# Altium footprint library MISC.PcbLib: 13 footprints
Each footprint in its own frame and in the unit in brackets; x right, y up, seen from the top. Pads: shape width x height; smd on the part's side, far side on the other; paste and mask are expansions set on the pad; w line width, h text height; cw(c..) or ccw(c..) is an arc to the next point about the centre after c.
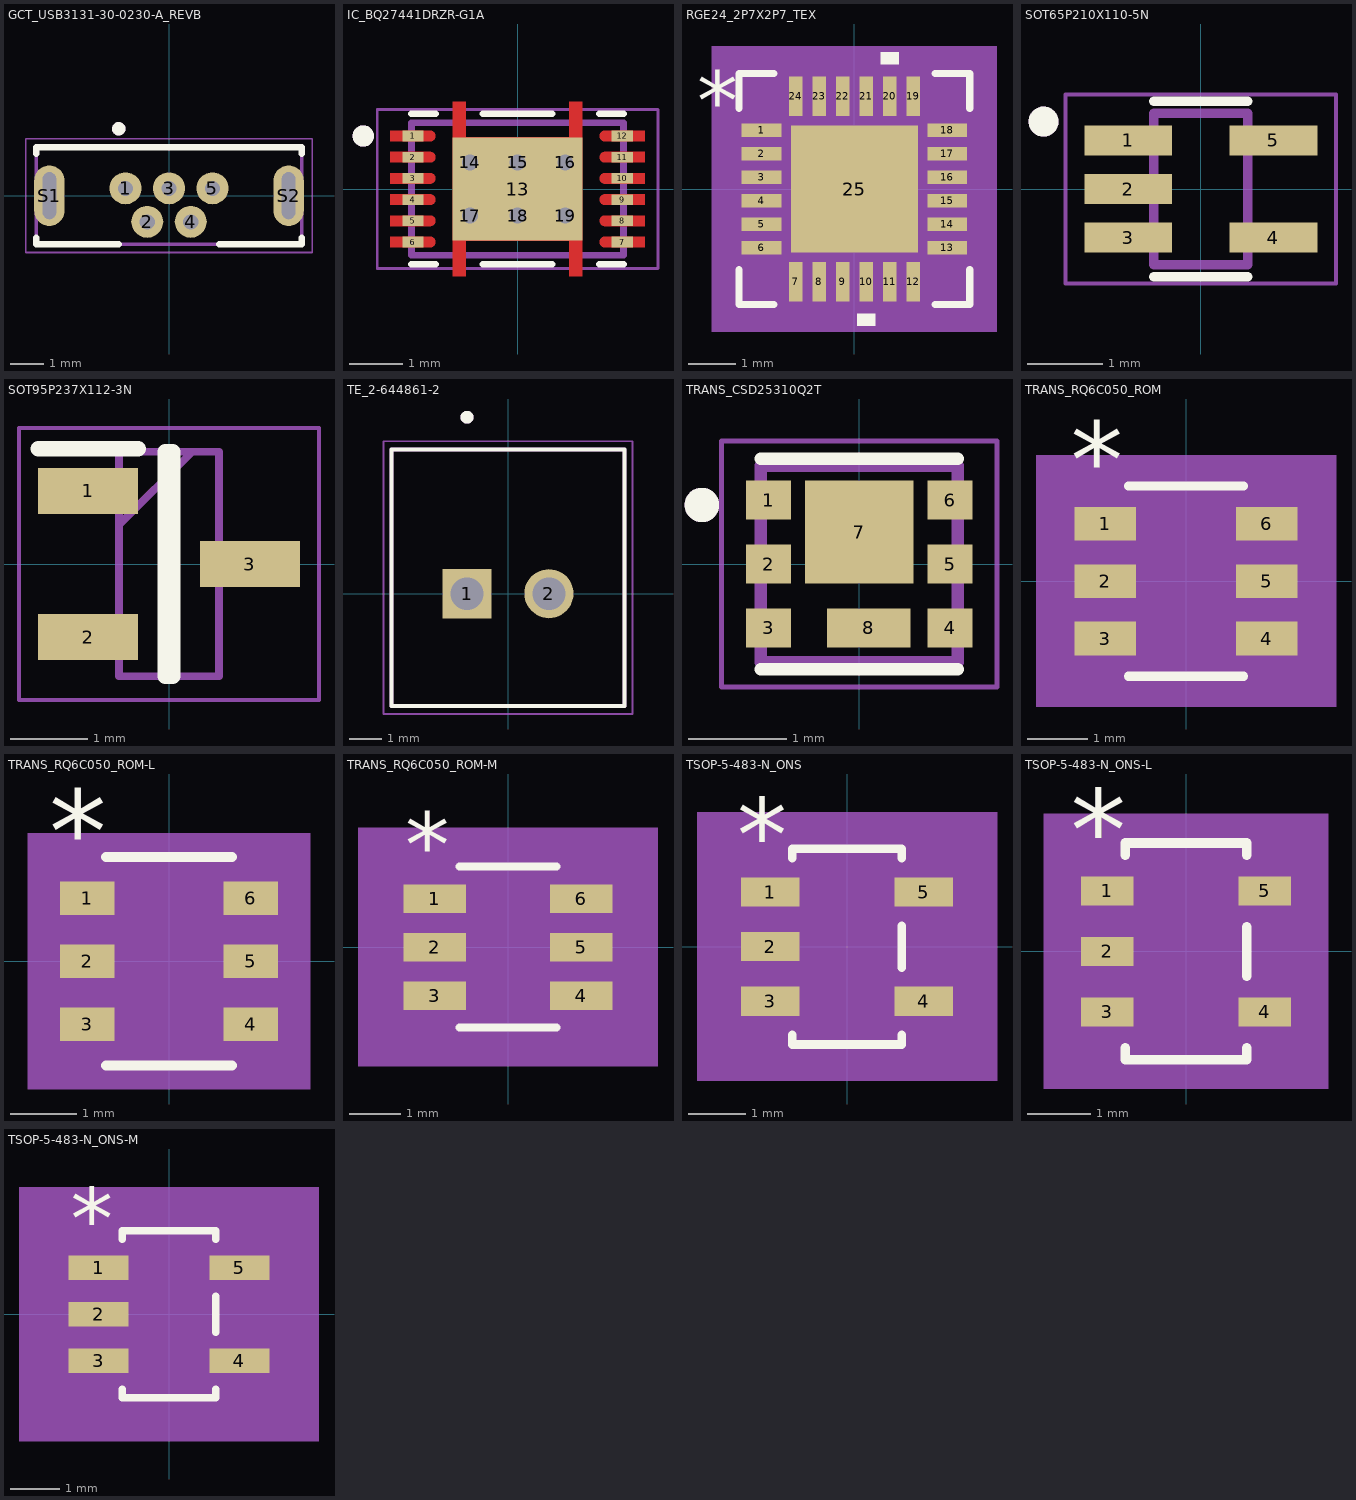
[diagram p0: the footprints below, top view; thin cyan lines are the x and y axes]

## GCT_USB3131-30-0230-A_REVB [mm]
pads (7):
  round 0.958 hole 0.45: 1(-1.3,0.22) 2(-0.65,-0.78) 3(0,0.22) 4(0.65,-0.78) 5(1.3,0.22)
  oval 0.908x1.816 hole 0.4 slot 1.4 at 90 deg: S1(-3.575,0) S2(3.575,0)
Top Overlay:
  circle w0.2: c-1.5,2 r0.1
  lines w0.2: -3.97,-1.26 -3.97,-1.45 -1.5,-1.45 ; -3.97,1.26 -3.97,1.45 3.97,1.45 3.97,1.26 ; 1.5,-1.45 3.97,-1.45 3.97,-1.26
Mechanical 13:
  circle w0.2: c-1.5,2 r0.1
  lines w0.1: -3.97,-1.45 -3.97,1.45 3.97,1.45 3.97,-1.45 -3.97,-1.45
Mechanical 15:
  lines w0.05: -4.28,-1.7 4.28,-1.7 4.28,1.7 -4.28,1.7 -4.28,-1.7

## IC_BQ27441DRZR-G1A [mm]
pads (19):
  rect 0.4x0.2 smd paste-1 mask+0: 1(-1.975,1) 2(-1.975,0.6) 3(-1.975,0.2) 4(-1.975,-0.2) 5(-1.975,-0.6) 6(-1.975,-1) 7(1.975,-1) 8(1.975,-0.6) 9(1.975,-0.2) 10(1.975,0.2) 11(1.975,0.6) 12(1.975,1)
  rect 2.45x1.95 smd paste-2 mask+0: 13(0,0)
  round 0.5 hole 0.3: 14(-0.9,0.5) 15(0,0.5) 16(0.9,0.5) 17(-0.9,-0.5) 18(0,-0.5) 19(0.9,-0.5)
Top Layer:
  region: 1.225,-1.65 0.975,-1.65 0.975,-0.975 -0.975,-0.975 -0.975,-1.65 -1.225,-1.65 -1.225,1.65 -0.975,1.65 -0.975,0.975 0.975,0.975 0.975,1.65 1.225,1.65
  region: -1.645,1.1 -1.64,1.099 -1.634,1.099 -1.629,1.098 -1.624,1.097 -1.619,1.095 -1.614,1.093 -1.609,1.091 -1.605,1.089 -1.6,1.087 -1.596,1.084 -1.591,1.081 -1.587,1.078 -1.583,1.074 -1.579,1.071 -1.576,1.067 -1.572,1.063 -1.569,1.059 -1.566,1.054 -1.563,1.05 -1.561,1.045 -1.559,1.041 -1.557,1.036 -1.555,1.031 -1.553,1.026 -1.552,1.021 -1.551,1.016 -1.551,1.01 -1.55,1.005 -1.55,1 -1.55,0.995 -1.551,0.99 -1.551,0.984 -1.552,0.979 -1.553,0.974 -1.555,0.969 -1.557,0.964 -1.559,0.959 -1.561,0.955 -1.563,0.95 -1.566,0.946 -1.569,0.941 -1.572,0.937 -1.576,0.933 -1.579,0.929 -1.583,0.926 -1.587,0.922 -1.591,0.919 -1.596,0.916 -1.6,0.913 -1.605,0.911 -1.609,0.909 -1.614,0.907 -1.619,0.905 -1.624,0.903 -1.629,0.902 -1.634,0.901 -1.64,0.901 -1.645,0.9 -1.65,0.9 -2.4,0.9 -2.4,1.1 -1.65,1.1
  region: -1.645,0.7 -1.64,0.699 -1.634,0.699 -1.629,0.698 -1.624,0.697 -1.619,0.695 -1.614,0.693 -1.609,0.691 -1.605,0.689 -1.6,0.687 -1.596,0.684 -1.591,0.681 -1.587,0.678 -1.583,0.674 -1.579,0.671 -1.576,0.667 -1.572,0.663 -1.569,0.659 -1.566,0.654 -1.563,0.65 -1.561,0.645 -1.559,0.641 -1.557,0.636 -1.555,0.631 -1.553,0.626 -1.552,0.621 -1.551,0.616 -1.551,0.61 -1.55,0.605 -1.55,0.6 -1.55,0.595 -1.551,0.59 -1.551,0.584 -1.552,0.579 -1.553,0.574 -1.555,0.569 -1.557,0.564 -1.559,0.559 -1.561,0.555 -1.563,0.55 -1.566,0.546 -1.569,0.541 -1.572,0.537 -1.576,0.533 -1.579,0.529 -1.583,0.526 -1.587,0.522 -1.591,0.519 -1.596,0.516 -1.6,0.513 -1.605,0.511 -1.609,0.509 -1.614,0.507 -1.619,0.505 -1.624,0.503 -1.629,0.502 -1.634,0.501 -1.64,0.501 -1.645,0.5 -1.65,0.5 -2.4,0.5 -2.4,0.7 -1.65,0.7
  region: -1.645,0.3 -1.64,0.299 -1.634,0.299 -1.629,0.298 -1.624,0.297 -1.619,0.295 -1.614,0.293 -1.609,0.291 -1.605,0.289 -1.6,0.287 -1.596,0.284 -1.591,0.281 -1.587,0.278 -1.583,0.274 -1.579,0.271 -1.576,0.267 -1.572,0.263 -1.569,0.259 -1.566,0.254 -1.563,0.25 -1.561,0.245 -1.559,0.241 -1.557,0.236 -1.555,0.231 -1.553,0.226 -1.552,0.221 -1.551,0.216 -1.551,0.21 -1.55,0.205 -1.55,0.2 -1.55,0.195 -1.551,0.19 -1.551,0.184 -1.552,0.179 -1.553,0.174 -1.555,0.169 -1.557,0.164 -1.559,0.159 -1.561,0.155 -1.563,0.15 -1.566,0.146 -1.569,0.141 -1.572,0.137 -1.576,0.133 -1.579,0.129 -1.583,0.126 -1.587,0.122 -1.591,0.119 -1.596,0.116 -1.6,0.113 -1.605,0.111 -1.609,0.109 -1.614,0.107 -1.619,0.105 -1.624,0.103 -1.629,0.102 -1.634,0.101 -1.64,0.101 -1.645,0.1 -1.65,0.1 -2.4,0.1 -2.4,0.3 -1.65,0.3
  region: -1.645,-0.1 -1.64,-0.101 -1.634,-0.101 -1.629,-0.102 -1.624,-0.103 -1.619,-0.105 -1.614,-0.107 -1.609,-0.109 -1.605,-0.111 -1.6,-0.113 -1.596,-0.116 -1.591,-0.119 -1.587,-0.122 -1.583,-0.126 -1.579,-0.129 -1.576,-0.133 -1.572,-0.137 -1.569,-0.141 -1.566,-0.146 -1.563,-0.15 -1.561,-0.155 -1.559,-0.159 -1.557,-0.164 -1.555,-0.169 -1.553,-0.174 -1.552,-0.179 -1.551,-0.184 -1.551,-0.19 -1.55,-0.195 -1.55,-0.2 -1.55,-0.205 -1.551,-0.21 -1.551,-0.216 -1.552,-0.221 -1.553,-0.226 -1.555,-0.231 -1.557,-0.236 -1.559,-0.241 -1.561,-0.245 -1.563,-0.25 -1.566,-0.254 -1.569,-0.259 -1.572,-0.263 -1.576,-0.267 -1.579,-0.271 -1.583,-0.274 -1.587,-0.278 -1.591,-0.281 -1.596,-0.284 -1.6,-0.287 -1.605,-0.289 -1.609,-0.291 -1.614,-0.293 -1.619,-0.295 -1.624,-0.297 -1.629,-0.298 -1.634,-0.299 -1.64,-0.299 -1.645,-0.3 -1.65,-0.3 -2.4,-0.3 -2.4,-0.1 -1.65,-0.1
  region: -1.645,-0.5 -1.64,-0.501 -1.634,-0.501 -1.629,-0.502 -1.624,-0.503 -1.619,-0.505 -1.614,-0.507 -1.609,-0.509 -1.605,-0.511 -1.6,-0.513 -1.596,-0.516 -1.591,-0.519 -1.587,-0.522 -1.583,-0.526 -1.579,-0.529 -1.576,-0.533 -1.572,-0.537 -1.569,-0.541 -1.566,-0.546 -1.563,-0.55 -1.561,-0.555 -1.559,-0.559 -1.557,-0.564 -1.555,-0.569 -1.553,-0.574 -1.552,-0.579 -1.551,-0.584 -1.551,-0.59 -1.55,-0.595 -1.55,-0.6 -1.55,-0.605 -1.551,-0.61 -1.551,-0.616 -1.552,-0.621 -1.553,-0.626 -1.555,-0.631 -1.557,-0.636 -1.559,-0.641 -1.561,-0.645 -1.563,-0.65 -1.566,-0.654 -1.569,-0.659 -1.572,-0.663 -1.576,-0.667 -1.579,-0.671 -1.583,-0.674 -1.587,-0.678 -1.591,-0.681 -1.596,-0.684 -1.6,-0.687 -1.605,-0.689 -1.609,-0.691 -1.614,-0.693 -1.619,-0.695 -1.624,-0.697 -1.629,-0.698 -1.634,-0.699 -1.64,-0.699 -1.645,-0.7 -1.65,-0.7 -2.4,-0.7 -2.4,-0.5 -1.65,-0.5
  region: -1.645,-0.9 -1.64,-0.901 -1.634,-0.901 -1.629,-0.902 -1.624,-0.903 -1.619,-0.905 -1.614,-0.907 -1.609,-0.909 -1.605,-0.911 -1.6,-0.913 -1.596,-0.916 -1.591,-0.919 -1.587,-0.922 -1.583,-0.926 -1.579,-0.929 -1.576,-0.933 -1.572,-0.937 -1.569,-0.941 -1.566,-0.946 -1.563,-0.95 -1.561,-0.955 -1.559,-0.959 -1.557,-0.964 -1.555,-0.969 -1.553,-0.974 -1.552,-0.979 -1.551,-0.984 -1.551,-0.99 -1.55,-0.995 -1.55,-1 -1.55,-1.005 -1.551,-1.01 -1.551,-1.016 -1.552,-1.021 -1.553,-1.026 -1.555,-1.031 -1.557,-1.036 -1.559,-1.041 -1.561,-1.045 -1.563,-1.05 -1.566,-1.054 -1.569,-1.059 -1.572,-1.063 -1.576,-1.067 -1.579,-1.071 -1.583,-1.074 -1.587,-1.078 -1.591,-1.081 -1.596,-1.084 -1.6,-1.087 -1.605,-1.089 -1.609,-1.091 -1.614,-1.093 -1.619,-1.095 -1.624,-1.097 -1.629,-1.098 -1.634,-1.099 -1.64,-1.099 -1.645,-1.1 -1.65,-1.1 -2.4,-1.1 -2.4,-0.9 -1.65,-0.9
  region: 2.4,-1.1 1.65,-1.1 1.645,-1.1 1.64,-1.099 1.634,-1.099 1.629,-1.098 1.624,-1.097 1.619,-1.095 1.614,-1.093 1.609,-1.091 1.605,-1.089 1.6,-1.087 1.596,-1.084 1.591,-1.081 1.587,-1.078 1.583,-1.074 1.579,-1.071 1.576,-1.067 1.572,-1.063 1.569,-1.059 1.566,-1.054 1.563,-1.05 1.561,-1.045 1.559,-1.041 1.557,-1.036 1.555,-1.031 1.553,-1.026 1.552,-1.021 1.551,-1.016 1.551,-1.01 1.55,-1.005 1.55,-1 1.55,-0.995 1.551,-0.99 1.551,-0.984 1.552,-0.979 1.553,-0.974 1.555,-0.969 1.557,-0.964 1.559,-0.959 1.561,-0.955 1.563,-0.95 1.566,-0.946 1.569,-0.941 1.572,-0.937 1.576,-0.933 1.579,-0.929 1.583,-0.926 1.587,-0.922 1.591,-0.919 1.596,-0.916 1.6,-0.913 1.605,-0.911 1.609,-0.909 1.614,-0.907 1.619,-0.905 1.624,-0.903 1.629,-0.902 1.634,-0.901 1.64,-0.901 1.645,-0.9 1.65,-0.9 2.4,-0.9
  region: 2.4,-0.7 1.65,-0.7 1.645,-0.7 1.64,-0.699 1.634,-0.699 1.629,-0.698 1.624,-0.697 1.619,-0.695 1.614,-0.693 1.609,-0.691 1.605,-0.689 1.6,-0.687 1.596,-0.684 1.591,-0.681 1.587,-0.678 1.583,-0.674 1.579,-0.671 1.576,-0.667 1.572,-0.663 1.569,-0.659 1.566,-0.654 1.563,-0.65 1.561,-0.645 1.559,-0.641 1.557,-0.636 1.555,-0.631 1.553,-0.626 1.552,-0.621 1.551,-0.616 1.551,-0.61 1.55,-0.605 1.55,-0.6 1.55,-0.595 1.551,-0.59 1.551,-0.584 1.552,-0.579 1.553,-0.574 1.555,-0.569 1.557,-0.564 1.559,-0.559 1.561,-0.555 1.563,-0.55 1.566,-0.546 1.569,-0.541 1.572,-0.537 1.576,-0.533 1.579,-0.529 1.583,-0.526 1.587,-0.522 1.591,-0.519 1.596,-0.516 1.6,-0.513 1.605,-0.511 1.609,-0.509 1.614,-0.507 1.619,-0.505 1.624,-0.503 1.629,-0.502 1.634,-0.501 1.64,-0.501 1.645,-0.5 1.65,-0.5 2.4,-0.5
  region: 2.4,-0.3 1.65,-0.3 1.645,-0.3 1.64,-0.299 1.634,-0.299 1.629,-0.298 1.624,-0.297 1.619,-0.295 1.614,-0.293 1.609,-0.291 1.605,-0.289 1.6,-0.287 1.596,-0.284 1.591,-0.281 1.587,-0.278 1.583,-0.274 1.579,-0.271 1.576,-0.267 1.572,-0.263 1.569,-0.259 1.566,-0.254 1.563,-0.25 1.561,-0.245 1.559,-0.241 1.557,-0.236 1.555,-0.231 1.553,-0.226 1.552,-0.221 1.551,-0.216 1.551,-0.21 1.55,-0.205 1.55,-0.2 1.55,-0.195 1.551,-0.19 1.551,-0.184 1.552,-0.179 1.553,-0.174 1.555,-0.169 1.557,-0.164 1.559,-0.159 1.561,-0.155 1.563,-0.15 1.566,-0.146 1.569,-0.141 1.572,-0.137 1.576,-0.133 1.579,-0.129 1.583,-0.126 1.587,-0.122 1.591,-0.119 1.596,-0.116 1.6,-0.113 1.605,-0.111 1.609,-0.109 1.614,-0.107 1.619,-0.105 1.624,-0.103 1.629,-0.102 1.634,-0.101 1.64,-0.101 1.645,-0.1 1.65,-0.1 2.4,-0.1
  region: 2.4,0.1 1.65,0.1 1.645,0.1 1.64,0.101 1.634,0.101 1.629,0.102 1.624,0.103 1.619,0.105 1.614,0.107 1.609,0.109 1.605,0.111 1.6,0.113 1.596,0.116 1.591,0.119 1.587,0.122 1.583,0.126 1.579,0.129 1.576,0.133 1.572,0.137 1.569,0.141 1.566,0.146 1.563,0.15 1.561,0.155 1.559,0.159 1.557,0.164 1.555,0.169 1.553,0.174 1.552,0.179 1.551,0.184 1.551,0.19 1.55,0.195 1.55,0.2 1.55,0.205 1.551,0.21 1.551,0.216 1.552,0.221 1.553,0.226 1.555,0.231 1.557,0.236 1.559,0.241 1.561,0.245 1.563,0.25 1.566,0.254 1.569,0.259 1.572,0.263 1.576,0.267 1.579,0.271 1.583,0.274 1.587,0.278 1.591,0.281 1.596,0.284 1.6,0.287 1.605,0.289 1.609,0.291 1.614,0.293 1.619,0.295 1.624,0.297 1.629,0.298 1.634,0.299 1.64,0.299 1.645,0.3 1.65,0.3 2.4,0.3
  region: 2.4,0.5 1.65,0.5 1.645,0.5 1.64,0.501 1.634,0.501 1.629,0.502 1.624,0.503 1.619,0.505 1.614,0.507 1.609,0.509 1.605,0.511 1.6,0.513 1.596,0.516 1.591,0.519 1.587,0.522 1.583,0.526 1.579,0.529 1.576,0.533 1.572,0.537 1.569,0.541 1.566,0.546 1.563,0.55 1.561,0.555 1.559,0.559 1.557,0.564 1.555,0.569 1.553,0.574 1.552,0.579 1.551,0.584 1.551,0.59 1.55,0.595 1.55,0.6 1.55,0.605 1.551,0.61 1.551,0.616 1.552,0.621 1.553,0.626 1.555,0.631 1.557,0.636 1.559,0.641 1.561,0.645 1.563,0.65 1.566,0.654 1.569,0.659 1.572,0.663 1.576,0.667 1.579,0.671 1.583,0.674 1.587,0.678 1.591,0.681 1.596,0.684 1.6,0.687 1.605,0.689 1.609,0.691 1.614,0.693 1.619,0.695 1.624,0.697 1.629,0.698 1.634,0.699 1.64,0.699 1.645,0.7 1.65,0.7 2.4,0.7
  region: 2.4,0.9 1.65,0.9 1.645,0.9 1.64,0.901 1.634,0.901 1.629,0.902 1.624,0.903 1.619,0.905 1.614,0.907 1.609,0.909 1.605,0.911 1.6,0.913 1.596,0.916 1.591,0.919 1.587,0.922 1.583,0.926 1.579,0.929 1.576,0.933 1.572,0.937 1.569,0.941 1.566,0.946 1.563,0.95 1.561,0.955 1.559,0.959 1.557,0.964 1.555,0.969 1.553,0.974 1.552,0.979 1.551,0.984 1.551,0.99 1.55,0.995 1.55,1 1.55,1.005 1.551,1.01 1.551,1.016 1.552,1.021 1.553,1.026 1.555,1.031 1.557,1.036 1.559,1.041 1.561,1.045 1.563,1.05 1.566,1.054 1.569,1.059 1.572,1.063 1.576,1.067 1.579,1.071 1.583,1.074 1.587,1.078 1.591,1.081 1.596,1.084 1.6,1.087 1.605,1.089 1.609,1.091 1.614,1.093 1.619,1.095 1.624,1.097 1.629,1.098 1.634,1.099 1.64,1.099 1.645,1.1 1.65,1.1 2.4,1.1
Top Overlay:
  circle w0.2: c-2.91,1 r0.1
  lines w0.127: -2,-1.42 -1.545,-1.42 ; -2,1.42 -1.545,1.42 ; -0.655,-1.42 0.655,-1.42 ; -0.655,1.42 0.655,1.42 ; 1.545,-1.42 2,-1.42 ; 1.545,1.42 2,1.42
Top Paste:
  drawing of 22 lines, arcs and shapes, not listed
Top Solder:
  drawing of 13 lines, arcs and shapes, not listed
Mechanical 13:
  circle w0.2: c-2.91,1 r0.1
  lines w0.127: -2,-1.25 2,-1.25 2,1.25 -2,1.25 -2,-1.25
Mechanical 15:
  lines w0.05: -2.65,-1.5 2.65,-1.5 2.65,1.5 -2.65,1.5 -2.65,-1.5
3D body "step_temp.STEP": height 0.96, standoff 0.01, extent -2.05,-1.25 2.05,1.25

## RGE24_2P7X2P7_TEX [mm]
pads (25):
  rect 0.85x0.28 smd paste+0 mask+0: 1(-1.975,1.25) 2(-1.975,0.75) 3(-1.975,0.25) 4(-1.975,-0.25) 5(-1.975,-0.75) 6(-1.975,-1.25) 13(1.975,-1.25) 14(1.975,-0.75) 15(1.975,-0.25) 16(1.975,0.25) 17(1.975,0.75) 18(1.975,1.25)
  rect 0.28x0.85 smd paste+0 mask+0: 7(-1.25,-1.975) 8(-0.75,-1.975) 9(-0.25,-1.975) 10(0.25,-1.975) 11(0.75,-1.975) 12(1.25,-1.975) 19(1.25,1.975) 20(0.75,1.975) 21(0.25,1.975) 22(-0.25,1.975) 23(-0.75,1.975) 24(-1.25,1.975)
  rect 2.7x2.7 smd paste-1.35 mask-1.333: 25(0,0)
Top Overlay:
  region: 0.441,-2.654 0.06,-2.654 0.06,-2.908 0.441,-2.908
  region: 0.941,2.654 0.56,2.654 0.56,2.908 0.941,2.908
  lines w0.152: -2.456,-1.718 -2.456,-2.456 -1.718,-2.456 ; -2.456,1.718 -2.456,2.456 -1.718,2.456 ; 1.718,-2.456 2.456,-2.456 2.456,-1.718 ; 1.718,2.456 2.456,2.456 2.456,1.718
  text "*" at -3.353,1.246 h1.27
Top Paste:
  drawing of 16 lines, arcs and shapes, not listed
Top Solder:
  region: -1.413,0.987 -1.413,1.413 1.413,1.413 1.413,0.987
  region: -1.413,0.2 -1.413,0.587 1.413,0.587 1.413,0.2
  region: -1.413,-0.587 -1.413,-0.2 1.413,-0.2 1.413,-0.587
  region: -1.413,-1.413 -1.413,-0.987 1.413,-0.987 1.413,-1.413
  region: -1.413,-1.413 -1.413,1.413 -0.987,1.413 -0.987,-1.413
  region: -0.2,-1.413 -0.2,1.413 -0.587,1.413 -0.587,-1.413
  region: 0.587,-1.413 0.587,1.413 0.2,1.413 0.2,-1.413
  region: 0.987,-1.413 0.987,1.413 1.413,1.413 1.413,-1.413
Mechanical 5:
  region: 3.035,-3.035 -3.035,-3.035 -3.035,3.035 3.035,3.035
Mechanical 13:
  lines w0.025: -2.075,0.805 -0.805,2.075 ; -2.075,-2.075 2.075,-2.075 2.075,2.075 -2.075,2.075 -2.075,-2.075
  text "*" at -1.613,0.865 h1.27
Mechanical 15:
  region: -1.644,-2.329 -2.329,-2.329 -2.329,-1.644 -2.654,-1.644 -2.654,1.644 -2.329,1.644 -2.329,2.329 -1.644,2.329 -1.644,2.654 1.644,2.654 1.644,2.329 2.329,2.329 2.329,1.644 2.654,1.644 2.654,-1.644 2.329,-1.644 2.329,-2.329 1.644,-2.329 1.644,-2.654 -1.644,-2.654
  lines w0.152: -2.654,-1.644 -2.329,-1.644 -2.329,-2.329 -1.644,-2.329 -1.644,-2.654 1.644,-2.654 1.644,-2.329 2.329,-2.329 2.329,-1.644 2.654,-1.644 2.654,1.644 2.329,1.644 2.329,2.329 1.644,2.329 1.644,2.654 -1.644,2.654 -1.644,2.329 -2.329,2.329 -2.329,1.644 -2.654,1.644 -2.654,-1.644
3D body "RGE24_2P7X2P7_TEX.step": height 1, standoff 0, extent -2.126,-2.126 2.126,2.126

## SOT65P210X110-5N [mm]
height 1.1
pads (5):
  rect 1.17x0.4 smd: 1(-0.97,0.65) 2(-0.97,0) 3(-0.97,-0.65) 4(0.97,-0.65) 5(0.97,0.65)
Top Overlay:
  circle w0.2: c-2.1,0.9 r0.1
  lines w0.127: -0.625,-1.17 0.625,-1.17 ; -0.625,1.17 0.625,1.17
Mechanical 13:
  circle w0.2: c-2.1,0.9 r0.1
  lines w0.127: -0.625,-1.012 -0.625,1.012 0.625,1.012 0.625,-1.012 -0.625,-1.012
Mechanical 15:
  lines w0.05: -1.805,-1.262 -1.805,1.262 1.805,1.262 1.805,-1.262 -1.805,-1.262

## SOT95P237X112-3N [mm]
pads (3):
  rect 1.3x0.6 smd: 1(-1.05,0.95) 2(-1.05,-0.95) 3(1.05,0)
Top Overlay:
  lines w0.2: -1.7,1.5 -0.4,1.5 ; -0.05,-1.46 0.05,-1.46 0.05,1.46 -0.05,1.46 -0.05,-1.46
Mechanical 15:
  lines w0.1: -0.65,0.51 0.3,1.46 ; -0.65,-1.46 0.65,-1.46 0.65,1.46 -0.65,1.46 -0.65,-1.46
Mechanical 20:
  lines w0.05: -1.95,-1.77 1.95,-1.77 1.95,1.77 -1.95,1.77 -1.95,-1.77
3D body "SI2312BDS-T1-E3.stp": height 5.8, standoff -4.65, extent -10,-3.376 10,3.376

## TE_2-644861-2 [mil]
pads (2):
  rect 60x60 / inner round 60 / far side rect 60x60 hole 40: 1(-50,0)
  round 60 hole 40: 2(50,0)
Top Overlay:
  circle w7.87: c-50,215.35 r3.94
  lines w5: -142.13,-137.01 -142.13,175.98 142.13,175.98 142.13,-137.01 -142.13,-137.01
Mechanical 13:
  circle w7.87: c-50,215.35 r3.94
  lines w5: -142.13,-137.01 -142.13,175.98 142.13,175.98 142.13,-137.01 -142.13,-137.01
Mechanical 15:
  lines w1.97: -151.97,-146.85 -151.97,185.83 151.97,185.83 151.97,-146.85 -151.97,-146.85
3D body "2-644861-2.stp": height 380.5, standoff -169.5, extent -142,-136.5 142,176.5

## TRANS_CSD25310Q2T [mm]
pads (8):
  rect 0.455x0.4 smd paste-1: 1(-0.923,0.65) 2(-0.923,0) 3(-0.923,-0.65) 4(0.923,-0.65) 5(0.923,0) 6(0.923,0.65)
  rect 1.1x1.05 smd paste-0.05: 7(0,0.325)
  rect 0.85x0.4 smd paste-0.275: 8(0.096,-0.65)
Top Overlay:
  circle w0.25: c-1.6,0.6 r0.05
  lines w0.127: -1,-1.07 1,-1.07 ; -1,1.07 1,1.07
Top Paste:
  region: -0.753,-0.8 -1.092,-0.8 -1.092,-0.5 -0.753,-0.5
  region: -0.753,-0.15 -1.092,-0.15 -1.092,0.15 -0.753,0.15
  region: -0.753,0.5 -1.092,0.5 -1.092,0.8 -0.753,0.8
  region: 1.092,-0.8 0.753,-0.8 0.753,-0.5 1.092,-0.5
  region: 1.092,0.5 0.753,0.5 0.753,0.8 1.092,0.8
  region: 1.092,-0.15 0.753,-0.15 0.753,0.15 1.092,0.15
Mechanical 13:
  circle w0.25: c-1.6,0.6 r0.05
  lines w0.127: -1,-1 -1,1 1,1 1,-1 -1,-1
Mechanical 15:
  lines w0.05: -1.4,-1.25 -1.4,1.25 1.4,1.25 1.4,-1.25 -1.4,-1.25
3D body "step_temp.STEP": height 0.8, standoff 0, extent -1,-1 1,1

## TRANS_RQ6C050_ROM [mm]
pads (6):
  rect 1.023x0.558 smd paste+0 mask+0: 1(-1.337,0.95) 2(-1.337,0) 3(-1.337,-0.95) 4(1.337,-0.95) 5(1.337,0) 6(1.337,0.95)
Top Overlay:
  lines w0.152: -0.953,-1.575 0.953,-1.575 ; -0.953,1.575 0.953,1.575
  text "*" at -1.909,1.381 h1.27
Mechanical 5:
  region: 2.484,-2.083 -2.484,-2.083 -2.484,2.083 2.484,2.083
Mechanical 13:
  lines w0: -0.305,1.448 ccw(c0,1.448) 0.305,1.448
  lines w0.025: -1.499,-1.204 -0.826,-1.204 -0.826,-0.696 -1.499,-0.696 -1.499,-1.204 ; -1.499,-0.254 -0.826,-0.254 -0.826,0.254 -1.499,0.254 -1.499,-0.254 ; -1.499,0.696 -0.826,0.696 -0.826,1.204 -1.499,1.204 -1.499,0.696 ; -0.826,-1.448 -0.826,1.448 0.826,1.448 0.826,-1.448 -0.826,-1.448 ; 0.826,-1.204 1.499,-1.204 1.499,-0.696 0.826,-0.696 0.826,-1.204 ; 0.826,-0.254 1.499,-0.254 1.499,0.254 0.826,0.254 0.826,-0.254 ; 0.826,0.696 1.499,0.696 1.499,1.204 0.826,1.204 0.826,0.696
  text "*" at -0.762,0.102 h1.27
Mechanical 15:
  region: -1.079,-1.483 -2.103,-1.483 -2.103,1.483 -1.079,1.483 -1.079,1.702 1.079,1.702 1.079,1.483 2.103,1.483 2.103,-1.483 1.079,-1.483 1.079,-1.702 -1.079,-1.702
  lines w0.152: -2.103,-1.483 -1.079,-1.483 -1.079,-1.702 1.079,-1.702 1.079,-1.483 2.103,-1.483 2.103,1.483 1.079,1.483 1.079,1.702 -1.079,1.702 -1.079,1.483 -2.103,1.483 -2.103,-1.483
3D body "TRANS_RQ6C050_ROM.step": height 0.99, standoff 0, extent -1.499,-1.448 1.499,1.448

## TRANS_RQ6C050_ROM-L [mil]
pads (6):
  rect 32.41x20 smd paste+0 mask+0: 1(-48.7,37.4) 2(-48.7,0) 3(-48.7,-37.4) 4(48.7,-37.4) 5(48.7,0) 6(48.7,37.4)
Top Overlay:
  lines w6: -37.5,-62 37.5,-62 ; -37.5,62 37.5,62
  text "*" at -71.2,52.4 h50
Mechanical 5:
  region: 83.91,-76 -83.91,-76 -83.91,76 83.91,76
Mechanical 13:
  lines w0: -12,57 ccw(c0,57) 12,57
  lines w1: -59,-47.4 -32.5,-47.4 -32.5,-27.4 -59,-27.4 -59,-47.4 ; -59,-10 -32.5,-10 -32.5,10 -59,10 -59,-10 ; -59,27.4 -32.5,27.4 -32.5,47.4 -59,47.4 -59,27.4 ; -32.5,-57 -32.5,57 32.5,57 32.5,-57 -32.5,-57 ; 32.5,-47.4 59,-47.4 59,-27.4 32.5,-27.4 32.5,-47.4 ; 32.5,-10 59,-10 59,10 32.5,10 32.5,-10 ; 32.5,27.4 59,27.4 59,47.4 32.5,47.4 32.5,27.4
  text "*" at -30,4 h50
Mechanical 15:
  region: -36.5,-51.4 -68.91,-51.4 -68.91,51.4 -36.5,51.4 -36.5,61 36.5,61 36.5,51.4 68.91,51.4 68.91,-51.4 36.5,-51.4 36.5,-61 -36.5,-61
  lines w6: -68.91,-51.4 -36.5,-51.4 -36.5,-61 36.5,-61 36.5,-51.4 68.91,-51.4 68.91,51.4 36.5,51.4 36.5,61 -36.5,61 -36.5,51.4 -68.91,51.4 -68.91,-51.4
3D body "TRANS_RQ6C050_ROM.step": height 39.09, standoff 0, extent -59.02,-57.01 59.02,57.01

## TRANS_RQ6C050_ROM-M [mm]
pads (6):
  rect 1.223x0.558 smd paste+0 mask+0: 1(-1.437,0.95) 2(-1.437,0) 3(-1.437,-0.95) 4(1.437,-0.95) 5(1.437,0) 6(1.437,0.95)
Top Overlay:
  lines w0.152: -0.953,-1.575 0.953,-1.575 ; -0.953,1.575 0.953,1.575
  text "*" at -2.009,1.381 h1.27
Mechanical 5:
  region: 2.938,-2.337 -2.938,-2.337 -2.938,2.337 2.938,2.337
Mechanical 13:
  lines w0: -0.305,1.448 ccw(c0,1.448) 0.305,1.448
  lines w0.025: -1.499,-1.204 -1.499,-0.696 -0.826,-0.696 -0.826,-1.204 -1.499,-1.204 ; -1.499,-0.254 -1.499,0.254 -0.826,0.254 -0.826,-0.254 -1.499,-0.254 ; -1.499,0.696 -1.499,1.204 -0.826,1.204 -0.826,0.696 -1.499,0.696 ; -0.826,-1.448 0.826,-1.448 0.826,1.448 -0.826,1.448 -0.826,-1.448 ; 0.826,-1.204 0.826,-0.696 1.499,-0.696 1.499,-1.204 0.826,-1.204 ; 0.826,-0.254 0.826,0.254 1.499,0.254 1.499,-0.254 0.826,-0.254 ; 0.826,0.696 0.826,1.204 1.499,1.204 1.499,0.696 0.826,0.696
  text "*" at -0.762,0.102 h1.27
Mechanical 15:
  region: -1.333,-1.737 -2.557,-1.737 -2.557,1.737 -1.333,1.737 -1.333,1.956 1.333,1.956 1.333,1.737 2.557,1.737 2.557,-1.737 1.333,-1.737 1.333,-1.956 -1.333,-1.956
  lines w0.152: -2.557,-1.737 -2.557,1.737 -1.333,1.737 -1.333,1.956 1.333,1.956 1.333,1.737 2.557,1.737 2.557,-1.737 1.333,-1.737 1.333,-1.956 -1.333,-1.956 -1.333,-1.737 -2.557,-1.737
3D body "TRANS_RQ6C050_ROM.step": height 0.99, standoff 0, extent -1.499,-1.448 1.499,1.448

## TSOP-5-483-N_ONS [mil]
pads (5):
  rect 40.28x20 smd paste+0 mask+0: 1(-52.64,37.4) 2(-52.64,0) 3(-52.64,-37.4) 4(52.64,-37.4) 5(52.64,37.4)
Top Overlay:
  lines w6: -37.5,-60.5 -37.5,-67 37.5,-67 37.5,-60.5 ; -37.5,60.5 -37.5,67 37.5,67 37.5,60.5 ; 37.5,-14.3 37.5,14.3
  text "*" at -75.14,52.4 h50
Mechanical 5:
  region: 102.78,-92 -102.78,-92 -102.78,92 102.78,92
Mechanical 13:
  lines w0: -12,62 ccw(c0,62) 12,62
  lines w1: -59,-47.4 -59,-27.4 -32.5,-27.4 -32.5,-47.4 -59,-47.4 ; -59,-10 -59,10 -32.5,10 -32.5,-10 -59,-10 ; -59,27.4 -59,47.4 -32.5,47.4 -32.5,27.4 -59,27.4 ; -32.5,-62 32.5,-62 32.5,62 -32.5,62 -32.5,-62 ; 32.5,-47.4 32.5,-27.4 59,-27.4 59,-47.4 32.5,-47.4 ; 32.5,27.4 32.5,47.4 59,47.4 59,27.4 32.5,27.4
  text "*" at -35,9.4 h50
Mechanical 15:
  region: 47.5,-77 -47.5,-77 -47.5,-57.4 -84,-57.4 -84,57.4 -47.5,57.4 -47.5,77 47.5,77 47.5,57.4 84,57.4 84,-57.4 47.5,-57.4
  lines w6: -84,-57.4 -47.5,-57.4 -47.5,-77 47.5,-77 47.5,-57.4 84,-57.4 84,57.4 47.5,57.4 47.5,77 -47.5,77 -47.5,57.4 -84,57.4 -84,-57.4
3D body "TSOP-5-483-N_ONS.step": height 43.11, standoff 0, extent -59.02,-62.01 59.02,62.01

## TSOP-5-483-N_ONS-L [mm]
pads (5):
  rect 0.823x0.458 smd paste+0 mask+0: 1(-1.237,0.95) 2(-1.237,0) 3(-1.237,-0.95) 4(1.237,-0.95) 5(1.237,0.95)
Top Overlay:
  lines w0.152: -0.953,-1.512 -0.953,-1.702 0.953,-1.702 0.953,-1.512 ; -0.953,1.512 -0.953,1.702 0.953,1.702 0.953,1.512 ; 0.953,-0.388 0.953,0.388
  text "*" at -1.809,1.281 h1.27
Mechanical 5:
  region: 2.233,-2.159 -2.233,-2.159 -2.233,2.159 2.233,2.159
Mechanical 13:
  lines w0: -0.305,1.575 ccw(c0,1.575) 0.305,1.575
  lines w0.025: -1.499,-1.204 -1.499,-0.696 -0.826,-0.696 -0.826,-1.204 -1.499,-1.204 ; -1.499,-0.254 -1.499,0.254 -0.826,0.254 -0.826,-0.254 -1.499,-0.254 ; -1.499,0.696 -1.499,1.204 -0.826,1.204 -0.826,0.696 -1.499,0.696 ; -0.826,-1.575 0.826,-1.575 0.826,1.575 -0.826,1.575 -0.826,-1.575 ; 0.826,-1.204 0.826,-0.696 1.499,-0.696 1.499,-1.204 0.826,-1.204 ; 0.826,0.696 0.826,1.204 1.499,1.204 1.499,0.696 0.826,0.696
  text "*" at -0.889,0.189 h1.27
Mechanical 15:
  region: 1.029,-1.778 -1.029,-1.778 -1.029,-1.408 -1.931,-1.408 -1.931,1.408 -1.029,1.408 -1.029,1.778 1.029,1.778 1.029,1.408 1.931,1.408 1.931,-1.408 1.029,-1.408
  lines w0.152: -1.931,-1.408 -1.029,-1.408 -1.029,-1.778 1.029,-1.778 1.029,-1.408 1.931,-1.408 1.931,1.408 1.029,1.408 1.029,1.778 -1.029,1.778 -1.029,1.408 -1.931,1.408 -1.931,-1.408
3D body "TSOP-5-483-N_ONS.step": height 1.09, standoff 0, extent -1.499,-1.575 1.499,1.575

## TSOP-5-483-N_ONS-M [mil]
pads (5):
  rect 48.15x20 smd paste+0 mask+0: 1(-56.58,37.4) 2(-56.58,0) 3(-56.58,-37.4) 4(56.58,-37.4) 5(56.58,37.4)
Top Overlay:
  lines w6: -37.5,-60.5 -37.5,-67 37.5,-67 37.5,-60.5 ; -37.5,60.5 -37.5,67 37.5,67 37.5,60.5 ; 37.5,-14.3 37.5,14.3
  text "*" at -79.08,52.4 h50
Mechanical 5:
  region: 120.65,-102 -120.65,-102 -120.65,102 120.65,102
Mechanical 13:
  lines w0: -12,62 ccw(c0,62) 12,62
  lines w1: -59,-47.4 -59,-27.4 -32.5,-27.4 -32.5,-47.4 -59,-47.4 ; -59,-10 -59,10 -32.5,10 -32.5,-10 -59,-10 ; -59,27.4 -59,47.4 -32.5,47.4 -32.5,27.4 -59,27.4 ; -32.5,-62 32.5,-62 32.5,62 -32.5,62 -32.5,-62 ; 32.5,-47.4 32.5,-27.4 59,-27.4 59,-47.4 32.5,-47.4 ; 32.5,27.4 32.5,47.4 59,47.4 59,27.4 32.5,27.4
  text "*" at -35,9.4 h50
Mechanical 15:
  region: 57.5,-87 -57.5,-87 -57.5,-57.4 -94,-57.4 -94,57.4 -57.5,57.4 -57.5,87 57.5,87 57.5,57.4 94,57.4 94,-57.4 57.5,-57.4
  lines w6: -94,-57.4 -57.5,-57.4 -57.5,-87 57.5,-87 57.5,-57.4 94,-57.4 94,57.4 57.5,57.4 57.5,87 -57.5,87 -57.5,57.4 -94,57.4 -94,-57.4
3D body "TSOP-5-483-N_ONS.step": height 43.11, standoff 0, extent -59.02,-62.01 59.02,62.01